# Altium integrated library SML-LX0603GW-TR.IntLib: 1 symbol
Pins are listed as number, name and electrical type; pins without a type are passive.

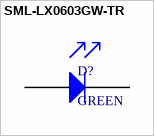
[diagram p0: symbol SML-LX0603GW-TR]

## SML-LX0603GW-TR
designator D?, comment GREEN
SML-LX0603GW-TR Green LED, Lumex
footprint SODFL160X60-2N (SODFL, 2-Leads, Body 0.80x1.60mm, IPC Medium Density)
pins: 1 C, 2 A